# Altium schematic symbol library TOF原理图库.SchLib: 5 symbols
Pins are listed as number, name and electrical type; pins without a type are passive.

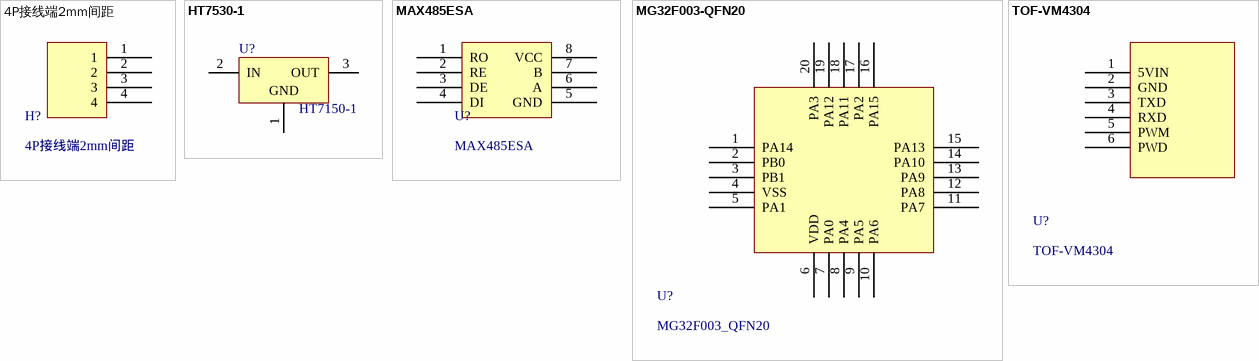
[diagram p0: symbols 4P接线端2mm间距 to TOF-VM4304]

## 4P接线端2mm间距
designator H?
pins: 1, 2, 3, 4

## HT7530-1
designator U?, comment HT7150-1
3.0V 100mA Low Power,  Low Dropout Voltage (LDO) Regulator; Published: 30-Mar-2007; DatasheetVersion: rev1.50, Jan-2006; PackageVersion: Jan-2006; PackageReference: SOT-89; Publisher: Altium Limited; PackageDescription: 3-Pin SOT-89 Package 1.5 mm Pitch, 4.1 mm Lead Span; Code_IPC: SOT89; ComponentLink1Description: Manufacturer Link; ComponentLink1URL: http://www.holtek.com/; ComponentLink2Description: Datasheet; ComponentLink2URL: http://www.holtek.com/pdf/consumer/75xx_1v150.pdf
footprint SOT89N (SOT89, 3-Leads, Body 4.5x2.4 mm, Pitch 1.5mm, Lead Span 4.1mm, IPC Medium Density)
footprint SOT89L (SOT89, 3-Leads, Body 4.5x2.4 mm, Pitch 1.5mm, Lead Span 4.1mm, IPC High Density)
footprint SOT89M (SOT89, 3-Leads, Body 4.5x2.4 mm, Pitch 1.5mm, Lead Span 4.1mm, IPC Low Density)
pins: 1 GND (power), 2 IN (power), 3 OUT (power)

## MAX485ESA
designator U?
pins: 1 RO, 2 RE, 3 DE, 4 DI, 5 GND, 6 A, 7 B, 8 VCC

## MG32F003-QFN20
designator U?, comment MG32F003_QFN20
QFN20主控芯片
pins: 1 PA14 , 2 PB0, 3 PB1, 4 VSS, 5 PA1, 6 VDD, 7 PA0, 8 PA4, 9 PA5, 10 PA6, 11 PA7, 12 PA8, 13 PA9, 14 PA10, 15 PA13, 16 PA15, 17 PA2, 18 PA11, 19 PA12, 20 PA3

## TOF-VM4304
designator U?
pins: 1 5VIN, 2 GND, 3 TXD, 4 RXD, 5 PWM, 6 PWD